# EAGLE library part LDS-E3904RI (library LDS-E3904RI)
LED Displays & Accessories LED Display Source: Datasheet
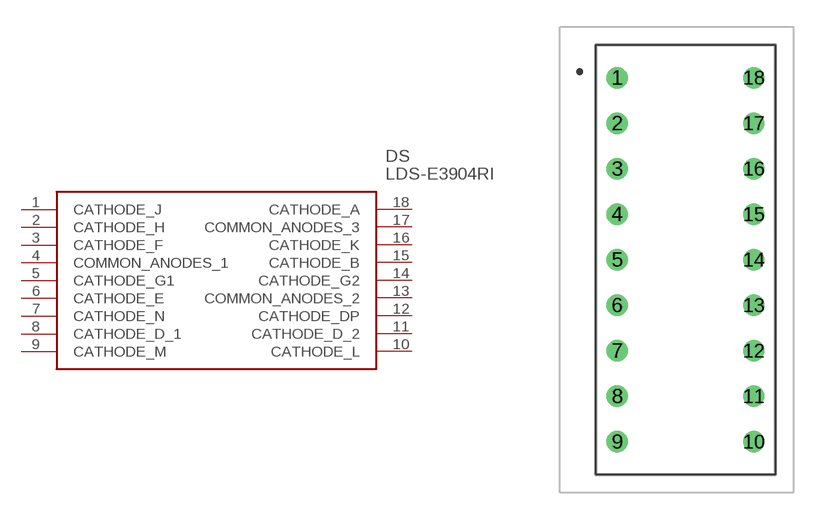
[diagram p0: symbol with the pads of LDSE3904RI; footprint LDSE3904RI]

Designator prefix DS

## LDS-E3904RI (Description: LED Displays & Accessories LED Display; Height: 7mm; Manufacturer_Name: Lumex; Manufacturer_Part_Number: LDS-E3904RI; Mouser_Part_Number: 696-LDS-E3904RI; Mouser_Price-Stock: https://www.mouser.co.uk/ProductDetail/Lumex/LDS-E3904RI?qs=36JUO7CBH3nXP7Q128kxjA%3D%3D)  [LDSE3904RI]
1  CATHODE_J
2  CATHODE_H
3  CATHODE_F
4  COMMON_ANODES_1
5  CATHODE_G1
6  CATHODE_E
7  CATHODE_N
8  CATHODE_D_1
9  CATHODE_M
10  CATHODE_L
11  CATHODE_D_2
12  CATHODE_DP
13  COMMON_ANODES_2
14  CATHODE_G2
15  CATHODE_B
16  CATHODE_K
17  COMMON_ANODES_3
18  CATHODE_A

## Footprint LDSE3904RI (pad centres in mm)
LDS-E3904RI-2
drill 0.65 pad 1.192: 1 0,0; 2 0,-2.54; 3 0,-5.08; 4 0,-7.62; 5 0,-10.16; 6 0,-12.7; 7 0,-15.24; 8 0,-17.78; 9 0,-20.32; 10 7.62,-20.32; 11 7.62,-17.78; 12 7.62,-15.24; 13 7.62,-12.7; 14 7.62,-10.16; 15 7.62,-7.62; 16 7.62,-5.08; 17 7.62,-2.54; 18 7.62,0